# EAGLE library part LSM9DS1_9AXIS_IMU (library quadparts)
LSM9DS1 iNEMO inertial module: 3D accelerometer, 3D gyroscope, 3D magnetometer. The LSM9DS1 is a system-in-package featuring a 3D digital linear acceleration sensor, a 3D digital angular rate sensor, and a 3D digital magnetic sensor. The LSM9DS1 has a linear acceleration full scale of ±2g/±4g/±8/±16 g, a magnetic field full scale of ±4/±8/±12/±16 gauss and an angular rate of ±245/±500/±2000 dps. The LSM9DS1 includes an I2C serial bus interface supporting standard and fast mode (100 kHz and 400 kHz) and an SPI serial standard interface. Magnetic, accelerometer and gyroscope sensing can be enabled or set in power-down mode separately for smart power management. The LSM9DS1 is available in a plastic land grid array package (LGA) and it is guaranteed to operate over an extended temperature range from -40 °C to +85 °C.
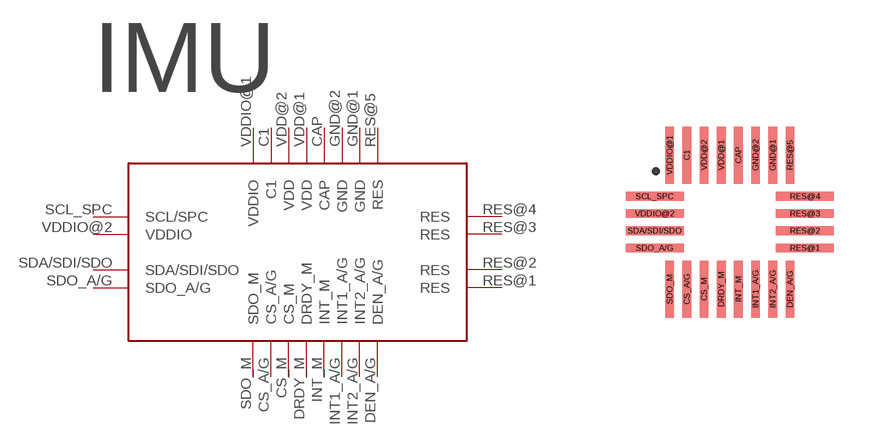
[diagram p0: symbol with the pads of LSM9DS1_9AXIS_IMU; footprint LSM9DS1_9AXIS_IMU]

Designator prefix IMU

## LSM9DS1_9AXIS_IMUIMU (CREATOR: YUEQI WANG; DIST: Digikey; DISTPN: 497-14946-1-ND; MFR: STMicroelectronics; MPN: LSM9DS1TR; REVIEWER: Group 9)  [LSM9DS1_9AXIS_IMU]
C1  C1
CAP  CAP
CS_A/G  CS_A/G
CS_M  CS_M
DEN_A/G  DEN_A/G
DRDY_M  DRDY_M
GND@1  GND  sup
GND@2  GND  sup
INT1_A/G  INT1_A/G
INT2_A/G  INT2_A/G
INT_M  INT_M
RES@1  RES  sup
RES@2  RES  sup
RES@3  RES  sup
RES@4  RES  sup
RES@5  RES  sup
SCL_SPC  SCL/SPC
SDA/SDI/SDO  SDA/SDI/SDO
SDO_A/G  SDO_A/G
SDO_M  SDO_M
VDD@1  VDD  sup
VDD@2  VDD  sup
VDDIO@1  VDDIO  sup
VDDIO@2  VDDIO  sup

## Footprint LSM9DS1_9AXIS_IMU (pad centres in mm)
smd 0.22 x 1.43: C1 0.43,3.35; CAP 1.72,3.35; GND@1 2.58,3.35; GND@2 2.15,3.35; RES@5 3.01,3.35; VDD@1 1.29,3.35; VDD@2 0.86,3.35; VDDIO@1 0,3.35
smd 0.22 x 1.42: CS_A/G 0.43,0; CS_M 0.86,0; DEN_A/G 3.01,0; DRDY_M 1.29,0; INT1_A/G 2.15,0; INT2_A/G 2.58,0; INT_M 1.72,0; SDO_M 0,0
smd 1.45 x 0.22: RES@1 3.385,1.03; RES@2 3.385,1.46; RES@3 3.385,1.89; RES@4 3.385,2.32; SCL_SPC -0.375,2.32; SDA/SDI/SDO -0.375,1.46; SDO_A/G -0.375,1.03; VDDIO@2 -0.375,1.89